# EAGLE library part RAK410 (library BaseApp)
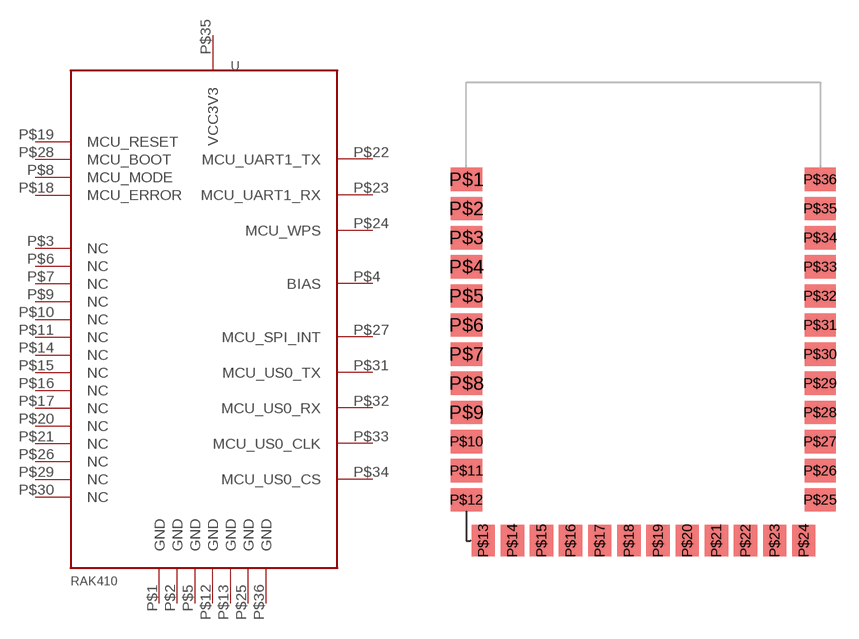
[diagram p99: symbol with the pads of RAK410; footprint RAK410]

Designator prefix -

## RAK410  [RAK410]
P$1  GND
P$2  GND
P$3  NC
P$4  BIAS
P$5  GND
P$6  NC
P$7  NC
P$8  MCU_MODE
P$9  NC
P$10  NC
P$11  NC
P$12  GND
P$13  GND
P$14  NC
P$15  NC
P$16  NC
P$17  NC
P$18  MCU_ERROR
P$19  MCU_RESET
P$20  NC
P$21  NC
P$22  MCU_UART1_TX
P$23  MCU_UART1_RX
P$24  MCU_WPS
P$25  GND
P$26  NC
P$27  MCU_SPI_INT
P$28  MCU_BOOT
P$29  NC
P$30  NC
P$31  MCU_US0_TX
P$32  MCU_US0_RX
P$33  MCU_US0_CLK
P$34  MCU_US0_CS
P$35  VCC3V3
P$36  GND

## Footprint RAK410 (pad centres in mm)
smd 2.032 x 1.524: P$1 -11.557,9.144; P$2 -11.557,7.239; P$3 -11.557,5.334; P$4 -11.557,3.429; P$5 -11.557,1.524; P$6 -11.557,-0.381; P$7 -11.557,-2.286; P$8 -11.557,-4.191; P$9 -11.557,-6.096; P$10 -11.557,-8.001; P$11 -11.557,-9.906; P$12 -11.557,-11.811; P$25 11.557,-11.811; P$26 11.557,-9.906; P$27 11.557,-8.001; P$28 11.557,-6.096; P$29 11.557,-4.191; P$30 11.557,-2.286; P$31 11.557,-0.381; P$32 11.557,1.524; P$33 11.557,3.429; P$34 11.557,5.334; P$35 11.557,7.239; P$36 11.557,9.144
smd 1.524 x 2.032: P$13 -10.465,-14.478; P$14 -8.56,-14.478; P$15 -6.655,-14.478; P$16 -4.75,-14.478; P$17 -2.845,-14.478; P$18 -0.94,-14.478; P$19 0.965,-14.478; P$20 2.87,-14.478; P$21 4.775,-14.478; P$22 6.68,-14.478; P$23 8.585,-14.478; P$24 10.49,-14.478